# EAGLE library part PCF8523 (library nxp_60_1_1)
The PCF8523 is a CMOS Real-Time Clock (RTC) and calendar optimized for low power consumption. Data is transferred serially via an I2C-bus with a maximum data rate of 1000 kbit/s. Alarm and timer functions are available with the possibility to generate a wake-up signal on an interrupt pin. An offset register allows fine-tuning of the clock. The PCF8523 has a backup battery switch-over circuit, which detects power failures and automatically switches to the battery supply when a power failure occurs. AAL Eindhoven MK
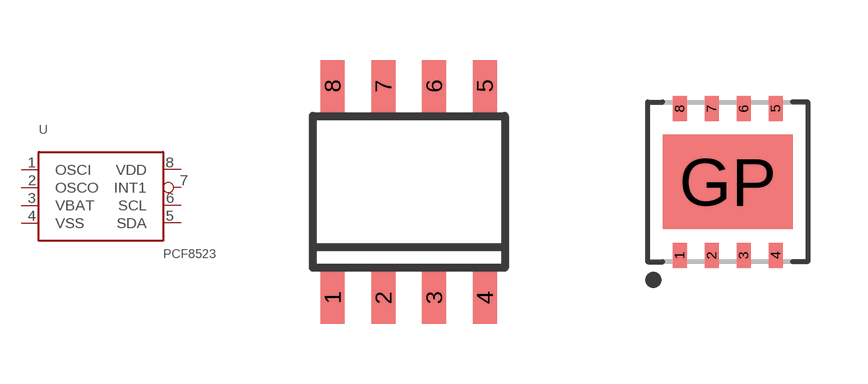
[diagram p36: symbol with the pads of SOT96-1; footprints SOT96-1, SOT909]

Designator prefix U

## PCF8523T  [SOT96-1]
1  OSCI  pas
2  OSCO  pas
3  VBAT  pwr
4  VSS  pwr
5  SDA
6  SCL  in
7  INT1  out
8  VDD  pwr

## PCF8523TK  [SOT909]
Pads as for SOT96-1

## Footprint SOT96-1 (pad centres in mm)
SOT96-1 SO8: plastic small outline package; 8 leads; body width 3.9 mm JEDEC: MS-012 IEC: 076E03
smd 0.6 x 1.3: 1 -1.905,-2.65; 2 -0.635,-2.65; 3 0.635,-2.65; 4 1.905,-2.65; 5 1.905,2.65; 6 0.635,2.65; 7 -0.635,2.65; 8 -1.905,2.65

## Footprint SOT909 (pad centres in mm)
SOT909 HVSON8: plastic thermal enhanced very thin small outline package; no leads; 8 terminals; body 4 x 4 x 0.85 mm JEDEC: -- IEC: MO-229 JEITA: --
smd 0.35 x 0.625: 1 -1.2,-1.837; 2 -0.4,-1.837; 3 0.4,-1.837; 4 1.2,-1.837; 5 1.2,1.837; 6 0.4,1.837; 7 -0.4,1.837; 8 -1.2,1.837
smd 3.25 x 2.35: GP 0,0